# Altium footprint library con-hirose.PCBLIB: 38 footprints (part 2 of 3)
Each footprint in its own frame and in the unit in brackets; x right, y up, seen from the top. Pads: shape width x height; smd on the part's side, far side on the other; paste and mask are expansions set on the pad; w line width, h text height; cw(c..) or ccw(c..) is an arc to the next point about the centre after c.
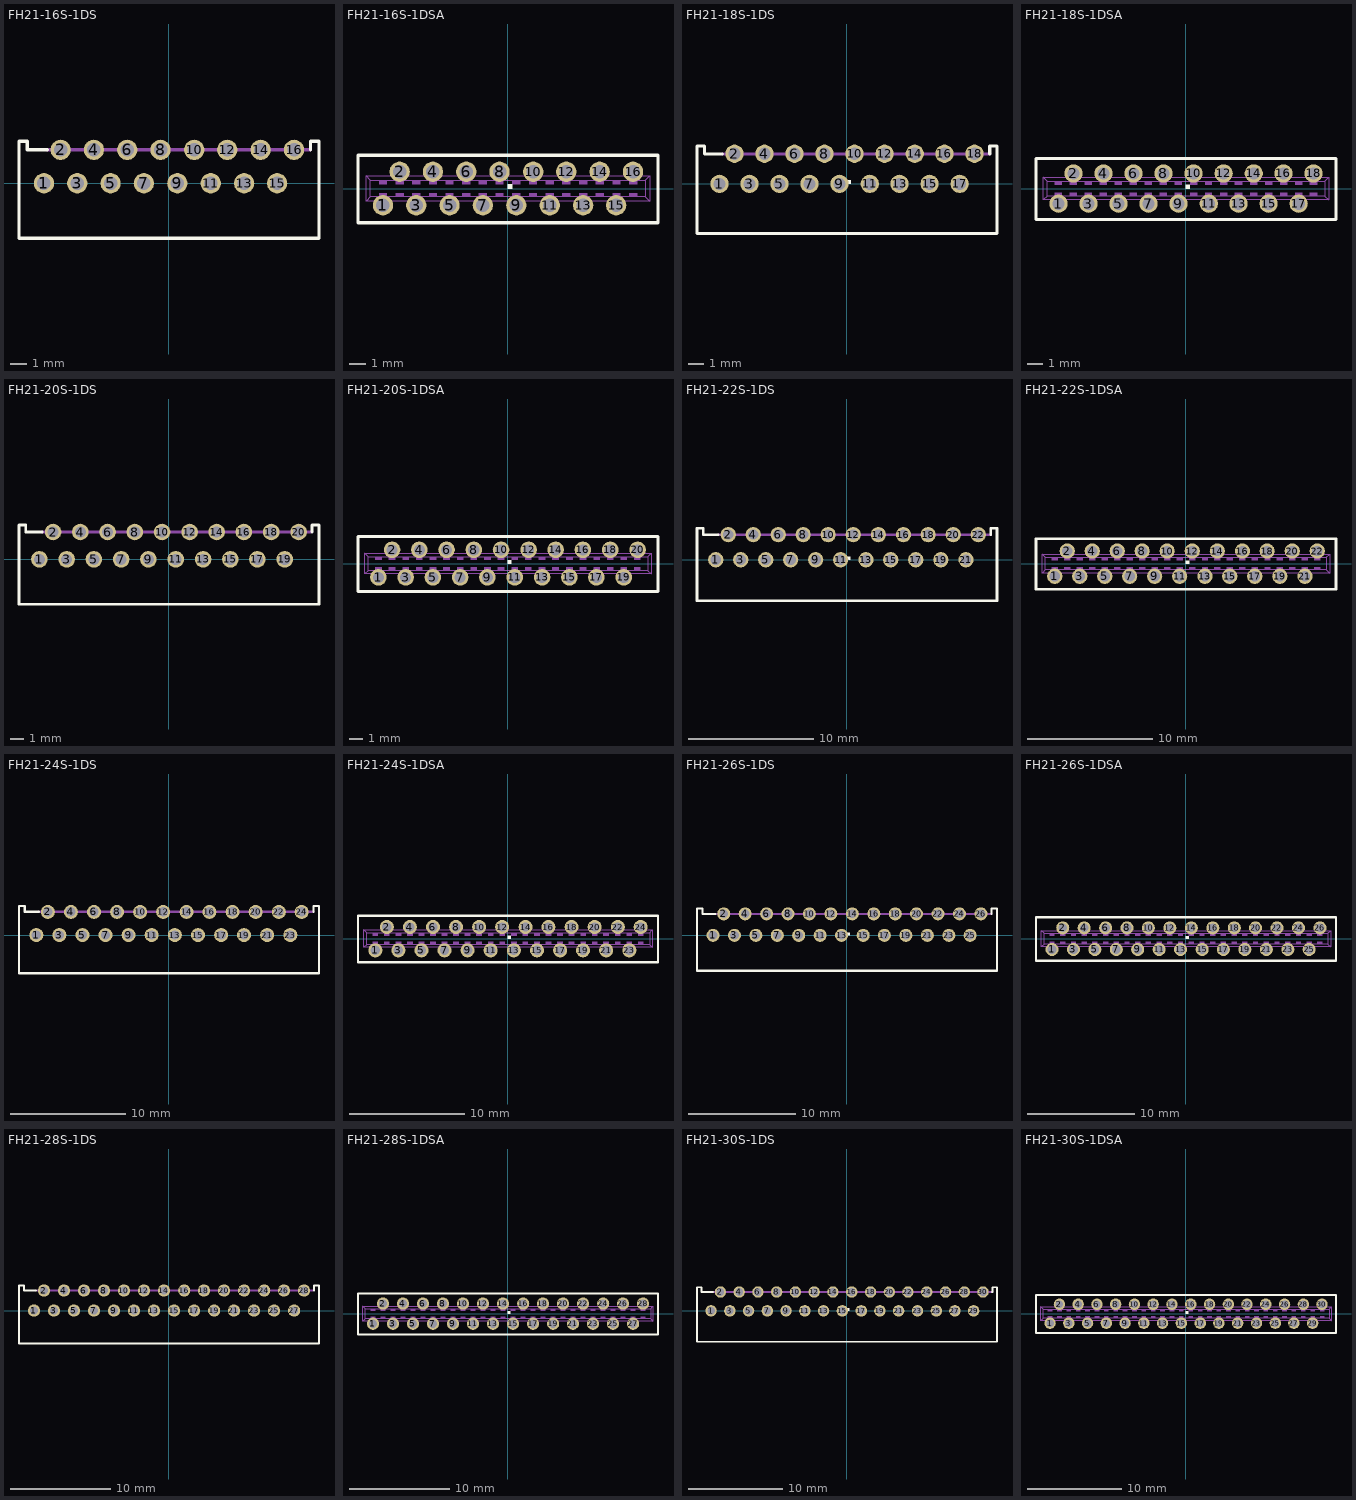
[diagram p1: the footprints below, top view; thin cyan lines are the x and y axes]

## FH21-16S-1DS [mil]
pads (16):
  round 48 hole 32: 1(-295.28,0) 2(-255.91,79) 3(-216.54,0) 4(-177.17,79) 5(-137.8,0) 6(-98.43,79) 7(-59.06,0) 8(-19.68,79) 9(20,0) 10(60,79) 11(99,0) 12(138,79) 13(178,0) 14(217,79) 15(256,0) 16(296,79)
Top Overlay:
  region: 0,0 10,0 10,10 0,10
  lines w8: -287.4,79 -334.65,79 -334.65,99 -354.33,99 -354.33,-129.92 355,-129.92 355,99 335,99 335,79
Mechanical 2:
  text ">NAME" at -333.54,122 h49.6
Mechanical 4:
  text ">VALUE" at -335.67,-197.87 h49.6
Mechanical 16:
  lines w8: -287.4,79 335,79

## FH21-16S-1DSA [mil]
pads (16):
  round 48 hole 32: 1(-295.28,-39.37) 2(-255.91,40) 3(-216.54,-39.37) 4(-177.17,40) 5(-137.8,-39.37) 6(-98.43,40) 7(-59.06,-39.37) 8(-19.68,40) 9(20,-39.37) 10(60,40) 11(99,-39.37) 12(138,40) 13(178,-39.37) 14(217,40) 15(256,-39.37) 16(296,40)
Top Overlay:
  region: 0,0 10,0 10,10 0,10
  lines w8: -354.33,-80.71 355,-80.71 355,79 -354.33,79 -354.33,-80.71
Mechanical 2:
  text ">NAME" at -341.54,100 h49.6
Mechanical 4:
  text ">VALUE" at -341.54,-137.5 h49.6
Mechanical 16:
  rectangle: -305.12,-19.68 -285.43,-9.84
  rectangle: -305.12,10 -285.43,20
  rectangle: -265.75,10 -246.06,20
  rectangle: -265.75,-19.68 -246.06,-9.84
  rectangle: -226.38,10 -206.69,20
  rectangle: -226.38,-19.68 -206.69,-9.84
  rectangle: -187.01,10 -167.32,20
  rectangle: -187.01,-19.68 -167.32,-9.84
  rectangle: -147.64,10 -127.95,20
  rectangle: -147.64,-19.68 -127.95,-9.84
  rectangle: -108.27,10 -88.58,20
  rectangle: -108.27,-19.68 -88.58,-9.84
  rectangle: -68.9,10 -49.21,20
  rectangle: -29.53,10 -9.84,20
  rectangle: 10,10 30,20
  rectangle: 50,10 69,20
  rectangle: -68.9,-19.68 -49.21,-9.84
  rectangle: -29.53,-19.68 -9.84,-9.84
  rectangle: 10,-19.68 30,-9.84
  rectangle: 50,-19.68 69,-9.84
  rectangle: 128,10 148,20
  rectangle: 89,10 109,20
  rectangle: 89,-19.68 109,-9.84
  rectangle: 128,-19.68 148,-9.84
  rectangle: 168,10 188,20
  rectangle: 207,10 227,20
  rectangle: 168,-19.68 188,-9.84
  rectangle: 207,-19.68 227,-9.84
  rectangle: 247,10 266,20
  rectangle: 286,10 306,20
  rectangle: 247,-19.68 266,-9.84
  rectangle: 286,-19.68 306,-9.84
  lines w2: -334.65,-29.53 335,-29.53 ; -334.65,-29.53 -334.65,30 ; -334.65,-29.53 -324.8,-19.68 ; -334.65,30 335,30 ; -334.65,30 -324.8,20 ; -324.8,-19.68 325,-19.68 ; -324.8,-19.68 -324.8,20 ; -324.8,20 325,20 ; 325,-19.68 325,20 ; 325,-19.68 335,-29.53 ; 325,20 335,30 ; 335,-29.53 335,30

## FH21-18S-1DS [mil]
pads (18):
  round 48 hole 32: 1(-334.65,0) 2(-295.28,79) 3(-255.91,0) 4(-216.54,79) 5(-177.17,0) 6(-137.8,79) 7(-98.43,0) 8(-59.06,79) 9(-19.68,0) 10(20,79) 11(60,0) 12(99,79) 13(138,0) 14(178,79) 15(217,0) 16(256,79) 17(296,0) 18(335,79)
Top Overlay:
  region: 0,0 10,0 10,10 0,10
  lines w8: -326.77,79 -374.02,79 -374.02,99 -393.7,99 -393.7,-129.92 394,-129.92 394,99 375,99 375,79
Mechanical 2:
  text ">NAME" at -372.91,122 h49.6
Mechanical 4:
  text ">VALUE" at -375.04,-197.87 h49.6
Mechanical 16:
  lines w8: -326.77,79 375,79

## FH21-18S-1DSA [mil]
pads (18):
  round 48 hole 32: 1(-334.65,-39.37) 2(-295.28,40) 3(-255.91,-39.37) 4(-216.54,40) 5(-177.17,-39.37) 6(-137.8,40) 7(-98.43,-39.37) 8(-59.06,40) 9(-19.68,-39.37) 10(20,40) 11(60,-39.37) 12(99,40) 13(138,-39.37) 14(178,40) 15(217,-39.37) 16(256,40) 17(296,-39.37) 18(335,40)
Top Overlay:
  region: 0,0 10,0 10,10 0,10
  lines w8: -393.7,-80.71 394,-80.71 394,79 -393.7,79 -393.7,-80.71
Mechanical 2:
  text ">NAME" at -380.91,100 h49.6
Mechanical 4:
  text ">VALUE" at -380.91,-137.5 h49.6
Mechanical 16:
  rectangle: -344.49,-19.68 -324.8,-9.84
  rectangle: -344.49,10 -324.8,20
  rectangle: -305.12,10 -285.43,20
  rectangle: -305.12,-19.68 -285.43,-9.84
  rectangle: -265.75,10 -246.06,20
  rectangle: -265.75,-19.68 -246.06,-9.84
  rectangle: -226.38,10 -206.69,20
  rectangle: -226.38,-19.68 -206.69,-9.84
  rectangle: -187.01,10 -167.32,20
  rectangle: -187.01,-19.68 -167.32,-9.84
  rectangle: -147.64,10 -127.95,20
  rectangle: -147.64,-19.68 -127.95,-9.84
  rectangle: -108.27,10 -88.58,20
  rectangle: -68.9,10 -49.21,20
  rectangle: -29.53,10 -9.84,20
  rectangle: 10,10 30,20
  rectangle: -108.27,-19.68 -88.58,-9.84
  rectangle: -68.9,-19.68 -49.21,-9.84
  rectangle: -29.53,-19.68 -9.84,-9.84
  rectangle: 10,-19.68 30,-9.84
  rectangle: 89,10 109,20
  rectangle: 50,10 69,20
  rectangle: 50,-19.68 69,-9.84
  rectangle: 89,-19.68 109,-9.84
  rectangle: 128,10 148,20
  rectangle: 168,10 188,20
  rectangle: 128,-19.68 148,-9.84
  rectangle: 168,-19.68 188,-9.84
  rectangle: 207,10 227,20
  rectangle: 247,10 266,20
  rectangle: 207,-19.68 227,-9.84
  rectangle: 247,-19.68 266,-9.84
  rectangle: 286,10 306,20
  rectangle: 325,10 345,20
  rectangle: 286,-19.68 306,-9.84
  rectangle: 325,-19.68 345,-9.84
  lines w2: -374.02,-29.53 375,-29.53 ; -374.02,-29.53 -374.02,30 ; -374.02,-29.53 -364.17,-19.68 ; -374.02,30 375,30 ; -374.02,30 -364.17,20 ; -364.17,-19.68 365,-19.68 ; -364.17,-19.68 -364.17,20 ; -364.17,20 365,20 ; 365,-19.68 365,20 ; 365,-19.68 375,-29.53 ; 365,20 375,30 ; 375,-29.53 375,30

## FH21-20S-1DS [mil]
pads (20):
  round 48 hole 32: 1(-374.02,0) 2(-334.65,79) 3(-295.28,0) 4(-255.91,79) 5(-216.54,0) 6(-177.17,79) 7(-137.8,0) 8(-98.43,79) 9(-59.06,0) 10(-19.68,79) 11(20,0) 12(60,79) 13(99,0) 14(138,79) 15(178,0) 16(217,79) 17(256,0) 18(296,79) 19(335,0) 20(375,79)
Top Overlay:
  region: 0,0 10,0 10,10 0,10
  lines w8: -366.14,79 -413.39,79 -413.39,99 -433.07,99 -433.07,-129.92 434,-129.92 434,99 414,99 414,79
Mechanical 2:
  text ">NAME" at -412.28,122 h49.6
Mechanical 4:
  text ">VALUE" at -414.41,-197.87 h49.6
Mechanical 16:
  lines w8: -366.14,79 414,79

## FH21-20S-1DSA [mil]
pads (20):
  round 48 hole 32: 1(-374.02,-39.37) 2(-334.65,40) 3(-295.28,-39.37) 4(-255.91,40) 5(-216.54,-39.37) 6(-177.17,40) 7(-137.8,-39.37) 8(-98.43,40) 9(-59.06,-39.37) 10(-19.68,40) 11(20,-39.37) 12(60,40) 13(99,-39.37) 14(138,40) 15(178,-39.37) 16(217,40) 17(256,-39.37) 18(296,40) 19(335,-39.37) 20(375,40)
Top Overlay:
  region: 0,0 10,0 10,10 0,10
  lines w8: -433.07,-80.71 434,-80.71 434,79 -433.07,79 -433.07,-80.71
Mechanical 2:
  text ">NAME" at -420.28,100 h49.6
Mechanical 4:
  text ">VALUE" at -420.28,-137.5 h49.6
Mechanical 16:
  rectangle: -383.86,-19.68 -364.17,-9.84
  rectangle: -383.86,10 -364.17,20
  rectangle: -344.49,10 -324.8,20
  rectangle: -344.49,-19.68 -324.8,-9.84
  rectangle: -305.12,10 -285.43,20
  rectangle: -305.12,-19.68 -285.43,-9.84
  rectangle: -265.75,10 -246.06,20
  rectangle: -265.75,-19.68 -246.06,-9.84
  rectangle: -226.38,10 -206.69,20
  rectangle: -226.38,-19.68 -206.69,-9.84
  rectangle: -187.01,10 -167.32,20
  rectangle: -187.01,-19.68 -167.32,-9.84
  rectangle: -147.64,10 -127.95,20
  rectangle: -108.27,10 -88.58,20
  rectangle: -68.9,10 -49.21,20
  rectangle: -29.53,10 -9.84,20
  rectangle: -147.64,-19.68 -127.95,-9.84
  rectangle: -108.27,-19.68 -88.58,-9.84
  rectangle: -68.9,-19.68 -49.21,-9.84
  rectangle: -29.53,-19.68 -9.84,-9.84
  rectangle: 50,10 69,20
  rectangle: 10,10 30,20
  rectangle: 10,-19.68 30,-9.84
  rectangle: 50,-19.68 69,-9.84
  rectangle: 89,10 109,20
  rectangle: 128,10 148,20
  rectangle: 89,-19.68 109,-9.84
  rectangle: 128,-19.68 148,-9.84
  rectangle: 168,10 188,20
  rectangle: 207,10 227,20
  rectangle: 168,-19.68 188,-9.84
  rectangle: 207,-19.68 227,-9.84
  rectangle: 247,10 266,20
  rectangle: 286,10 306,20
  rectangle: 247,-19.68 266,-9.84
  rectangle: 286,-19.68 306,-9.84
  rectangle: 325,10 345,20
  rectangle: 365,10 384,20
  rectangle: 325,-19.68 345,-9.84
  rectangle: 365,-19.68 384,-9.84
  lines w2: -413.39,-29.53 414,-29.53 ; -413.39,-29.53 -413.39,30 ; -413.39,-29.53 -403.54,-19.68 ; -413.39,30 414,30 ; -413.39,30 -403.54,20 ; -403.54,-19.68 404,-19.68 ; -403.54,-19.68 -403.54,20 ; -403.54,20 404,20 ; 404,-19.68 404,20 ; 404,-19.68 414,-29.53 ; 404,20 414,30 ; 414,-29.53 414,30

## FH21-22S-1DS [mil]
pads (22):
  round 48 hole 32: 1(-413.39,0) 2(-374.02,79) 3(-334.65,0) 4(-295.28,79) 5(-255.91,0) 6(-216.54,79) 7(-177.17,0) 8(-137.8,79) 9(-98.43,0) 10(-59.06,79) 11(-19.68,0) 12(20,79) 13(60,0) 14(99,79) 15(138,0) 16(178,79) 17(217,0) 18(256,79) 19(296,0) 20(335,79) 21(375,0) 22(414,79)
Top Overlay:
  region: 0,0 10,0 10,10 0,10
  lines w8: -405.51,79 -452.76,79 -452.76,99 -472.44,99 -472.44,-129.92 473,-129.92 473,99 453,99 453,79
Mechanical 2:
  text ">NAME" at -451.65,122 h49.6
Mechanical 4:
  text ">VALUE" at -453.78,-197.87 h49.6
Mechanical 16:
  lines w8: -405.51,79 453,79

## FH21-22S-1DSA [mil]
pads (22):
  round 48 hole 32: 1(-413.39,-39.37) 2(-374.02,40) 3(-334.65,-39.37) 4(-295.28,40) 5(-255.91,-39.37) 6(-216.54,40) 7(-177.17,-39.37) 8(-137.8,40) 9(-98.43,-39.37) 10(-59.06,40) 11(-19.68,-39.37) 12(20,40) 13(60,-39.37) 14(99,40) 15(138,-39.37) 16(178,40) 17(217,-39.37) 18(256,40) 19(296,-39.37) 20(335,40) 21(375,-39.37) 22(414,40)
Top Overlay:
  region: 0,0 10,0 10,10 0,10
  lines w8: -472.44,-80.71 473,-80.71 473,79 -472.44,79 -472.44,-80.71
Mechanical 2:
  text ">NAME" at -459.65,100 h49.6
Mechanical 4:
  text ">VALUE" at -459.65,-137.5 h49.6
Mechanical 16:
  rectangle: -423.23,-19.68 -403.54,-9.84
  rectangle: -423.23,10 -403.54,20
  rectangle: -383.86,10 -364.17,20
  rectangle: -383.86,-19.68 -364.17,-9.84
  rectangle: -344.49,10 -324.8,20
  rectangle: -344.49,-19.68 -324.8,-9.84
  rectangle: -305.12,10 -285.43,20
  rectangle: -305.12,-19.68 -285.43,-9.84
  rectangle: -265.75,10 -246.06,20
  rectangle: -265.75,-19.68 -246.06,-9.84
  rectangle: -226.38,10 -206.69,20
  rectangle: -226.38,-19.68 -206.69,-9.84
  rectangle: -187.01,10 -167.32,20
  rectangle: -147.64,10 -127.95,20
  rectangle: -108.27,10 -88.58,20
  rectangle: -68.9,10 -49.21,20
  rectangle: -187.01,-19.68 -167.32,-9.84
  rectangle: -147.64,-19.68 -127.95,-9.84
  rectangle: -108.27,-19.68 -88.58,-9.84
  rectangle: -68.9,-19.68 -49.21,-9.84
  rectangle: 10,10 30,20
  rectangle: -29.53,10 -9.84,20
  rectangle: -29.53,-19.68 -9.84,-9.84
  rectangle: 10,-19.68 30,-9.84
  rectangle: 50,10 69,20
  rectangle: 89,10 109,20
  rectangle: 50,-19.68 69,-9.84
  rectangle: 89,-19.68 109,-9.84
  rectangle: 128,10 148,20
  rectangle: 168,10 188,20
  rectangle: 128,-19.68 148,-9.84
  rectangle: 168,-19.68 188,-9.84
  rectangle: 207,10 227,20
  rectangle: 247,10 266,20
  rectangle: 207,-19.68 227,-9.84
  rectangle: 247,-19.68 266,-9.84
  rectangle: 286,10 306,20
  rectangle: 325,10 345,20
  rectangle: 286,-19.68 306,-9.84
  rectangle: 325,-19.68 345,-9.84
  rectangle: 365,10 384,20
  rectangle: 404,10 424,20
  rectangle: 365,-19.68 384,-9.84
  rectangle: 404,-19.68 424,-9.84
  lines w2: -452.76,-29.53 453,-29.53 ; -452.76,-29.53 -452.76,30 ; -452.76,-29.53 -442.91,-19.68 ; -452.76,30 453,30 ; -452.76,30 -442.91,20 ; -442.91,-19.68 443,-19.68 ; -442.91,-19.68 -442.91,20 ; -442.91,20 443,20 ; 443,-19.68 443,20 ; 443,-19.68 453,-29.53 ; 443,20 453,30 ; 453,-29.53 453,30

## FH21-24S-1DS [mil]
pads (24):
  round 48 hole 32: 1(-452.76,0) 2(-413.39,79) 3(-374.02,0) 4(-334.65,79) 5(-295.28,0) 6(-255.91,79) 7(-216.54,0) 8(-177.17,79) 9(-137.8,0) 10(-98.43,79) 11(-59.06,0) 12(-19.68,79) 13(20,0) 14(60,79) 15(99,0) 16(138,79) 17(178,0) 18(217,79) 19(256,0) 20(296,79) 21(335,0) 22(375,79) 23(414,0) 24(453,79)
Top Overlay:
  region: 0,0 10,0 10,10 0,10
  lines w8: -444.88,79 -492.13,79 -492.13,99 -511.81,99 -511.81,-129.92 512,-129.92 512,99 493,99 493,79
Mechanical 2:
  text ">NAME" at -491.02,122 h49.6
Mechanical 4:
  text ">VALUE" at -493.15,-197.87 h49.6
Mechanical 16:
  lines w8: -444.88,79 493,79

## FH21-24S-1DSA [mil]
pads (24):
  round 48 hole 32: 1(-452.76,-39.37) 2(-413.39,40) 3(-374.02,-39.37) 4(-334.65,40) 5(-295.28,-39.37) 6(-255.91,40) 7(-216.54,-39.37) 8(-177.17,40) 9(-137.8,-39.37) 10(-98.43,40) 11(-59.06,-39.37) 12(-19.68,40) 13(20,-39.37) 14(60,40) 15(99,-39.37) 16(138,40) 17(178,-39.37) 18(217,40) 19(256,-39.37) 20(296,40) 21(335,-39.37) 22(375,40) 23(414,-39.37) 24(453,40)
Top Overlay:
  region: 0,0 10,0 10,10 0,10
  lines w8: -511.81,-80.71 512,-80.71 512,79 -511.81,79 -511.81,-80.71
Mechanical 2:
  text ">NAME" at -499.02,100 h49.6
Mechanical 4:
  text ">VALUE" at -499.02,-137.5 h49.6
Mechanical 16:
  rectangle: -462.6,-19.68 -442.91,-9.84
  rectangle: -462.6,10 -442.91,20
  rectangle: -423.23,10 -403.54,20
  rectangle: -423.23,-19.68 -403.54,-9.84
  rectangle: -383.86,10 -364.17,20
  rectangle: -383.86,-19.68 -364.17,-9.84
  rectangle: -344.49,10 -324.8,20
  rectangle: -344.49,-19.68 -324.8,-9.84
  rectangle: -305.12,10 -285.43,20
  rectangle: -305.12,-19.68 -285.43,-9.84
  rectangle: -265.75,10 -246.06,20
  rectangle: -265.75,-19.68 -246.06,-9.84
  rectangle: -226.38,10 -206.69,20
  rectangle: -187.01,10 -167.32,20
  rectangle: -147.64,10 -127.95,20
  rectangle: -108.27,10 -88.58,20
  rectangle: -226.38,-19.68 -206.69,-9.84
  rectangle: -187.01,-19.68 -167.32,-9.84
  rectangle: -147.64,-19.68 -127.95,-9.84
  rectangle: -108.27,-19.68 -88.58,-9.84
  rectangle: -29.53,10 -9.84,20
  rectangle: -68.9,10 -49.21,20
  rectangle: -68.9,-19.68 -49.21,-9.84
  rectangle: -29.53,-19.68 -9.84,-9.84
  rectangle: 10,10 30,20
  rectangle: 50,10 69,20
  rectangle: 10,-19.68 30,-9.84
  rectangle: 50,-19.68 69,-9.84
  rectangle: 89,10 109,20
  rectangle: 128,10 148,20
  rectangle: 89,-19.68 109,-9.84
  rectangle: 128,-19.68 148,-9.84
  rectangle: 168,10 188,20
  rectangle: 207,10 227,20
  rectangle: 168,-19.68 188,-9.84
  rectangle: 207,-19.68 227,-9.84
  rectangle: 247,10 266,20
  rectangle: 286,10 306,20
  rectangle: 247,-19.68 266,-9.84
  rectangle: 286,-19.68 306,-9.84
  rectangle: 325,10 345,20
  rectangle: 365,10 384,20
  rectangle: 325,-19.68 345,-9.84
  rectangle: 365,-19.68 384,-9.84
  rectangle: 404,10 424,20
  rectangle: 443,10 463,20
  rectangle: 404,-19.68 424,-9.84
  rectangle: 443,-19.68 463,-9.84
  lines w2: -492.13,-29.53 493,-29.53 ; -492.13,-29.53 -492.13,30 ; -492.13,-29.53 -482.28,-19.68 ; -492.13,30 493,30 ; -492.13,30 -482.28,20 ; -482.28,-19.68 483,-19.68 ; -482.28,-19.68 -482.28,20 ; -482.28,20 483,20 ; 483,-19.68 483,20 ; 483,-19.68 493,-29.53 ; 483,20 493,30 ; 493,-29.53 493,30

## FH21-26S-1DS [mil]
pads (26):
  round 48 hole 32: 1(-492.13,0) 2(-452.76,79) 3(-413.39,0) 4(-374.02,79) 5(-334.65,0) 6(-295.28,79) 7(-255.91,0) 8(-216.54,79) 9(-177.17,0) 10(-137.8,79) 11(-98.43,0) 12(-59.06,79) 13(-19.68,0) 14(20,79) 15(60,0) 16(99,79) 17(138,0) 18(178,79) 19(217,0) 20(256,79) 21(296,0) 22(335,79) 23(375,0) 24(414,79) 25(453,0) 26(493,79)
Top Overlay:
  region: 0,0 10,0 10,10 0,10
  lines w8: -484.25,79 -531.5,79 -531.5,99 -551.18,99 -551.18,-129.92 552,-129.92 552,99 532,99 532,79
Mechanical 2:
  text ">NAME" at -530.39,122 h49.6
Mechanical 4:
  text ">VALUE" at -532.52,-197.87 h49.6
Mechanical 16:
  lines w8: -484.25,79 532,79

## FH21-26S-1DSA [mil]
pads (26):
  round 48 hole 32: 1(-492.13,-39.37) 2(-452.76,40) 3(-413.39,-39.37) 4(-374.02,40) 5(-334.65,-39.37) 6(-295.28,40) 7(-255.91,-39.37) 8(-216.54,40) 9(-177.17,-39.37) 10(-137.8,40) 11(-98.43,-39.37) 12(-59.06,40) 13(-19.68,-39.37) 14(20,40) 15(60,-39.37) 16(99,40) 17(138,-39.37) 18(178,40) 19(217,-39.37) 20(256,40) 21(296,-39.37) 22(335,40) 23(375,-39.37) 24(414,40) 25(453,-39.37) 26(493,40)
Top Overlay:
  region: 0,0 10,0 10,10 0,10
  lines w8: -551.18,-80.71 552,-80.71 552,79 -551.18,79 -551.18,-80.71
Mechanical 2:
  text ">NAME" at -538.39,100 h49.6
Mechanical 4:
  text ">VALUE" at -538.39,-137.5 h49.6
Mechanical 16:
  rectangle: -501.97,-19.68 -482.28,-9.84
  rectangle: -501.97,10 -482.28,20
  rectangle: -462.6,10 -442.91,20
  rectangle: -462.6,-19.68 -442.91,-9.84
  rectangle: -423.23,10 -403.54,20
  rectangle: -423.23,-19.68 -403.54,-9.84
  rectangle: -383.86,10 -364.17,20
  rectangle: -383.86,-19.68 -364.17,-9.84
  rectangle: -344.49,10 -324.8,20
  rectangle: -344.49,-19.68 -324.8,-9.84
  rectangle: -305.12,10 -285.43,20
  rectangle: -305.12,-19.68 -285.43,-9.84
  rectangle: -265.75,10 -246.06,20
  rectangle: -226.38,10 -206.69,20
  rectangle: -187.01,10 -167.32,20
  rectangle: -147.64,10 -127.95,20
  rectangle: -265.75,-19.68 -246.06,-9.84
  rectangle: -226.38,-19.68 -206.69,-9.84
  rectangle: -187.01,-19.68 -167.32,-9.84
  rectangle: -147.64,-19.68 -127.95,-9.84
  rectangle: -68.9,10 -49.21,20
  rectangle: -108.27,10 -88.58,20
  rectangle: -108.27,-19.68 -88.58,-9.84
  rectangle: -68.9,-19.68 -49.21,-9.84
  rectangle: -29.53,10 -9.84,20
  rectangle: 10,10 30,20
  rectangle: -29.53,-19.68 -9.84,-9.84
  rectangle: 10,-19.68 30,-9.84
  rectangle: 50,10 69,20
  rectangle: 89,10 109,20
  rectangle: 50,-19.68 69,-9.84
  rectangle: 89,-19.68 109,-9.84
  rectangle: 128,10 148,20
  rectangle: 168,10 188,20
  rectangle: 128,-19.68 148,-9.84
  rectangle: 168,-19.68 188,-9.84
  rectangle: 207,10 227,20
  rectangle: 247,10 266,20
  rectangle: 207,-19.68 227,-9.84
  rectangle: 247,-19.68 266,-9.84
  rectangle: 286,10 306,20
  rectangle: 325,10 345,20
  rectangle: 286,-19.68 306,-9.84
  rectangle: 325,-19.68 345,-9.84
  rectangle: 365,10 384,20
  rectangle: 404,10 424,20
  rectangle: 365,-19.68 384,-9.84
  rectangle: 404,-19.68 424,-9.84
  rectangle: 443,10 463,20
  rectangle: 483,10 502,20
  rectangle: 443,-19.68 463,-9.84
  rectangle: 483,-19.68 502,-9.84
  lines w2: -531.5,-29.53 532,-29.53 ; -531.5,-29.53 -531.5,30 ; -531.5,-29.53 -521.65,-19.68 ; -531.5,30 532,30 ; -531.5,30 -521.65,20 ; -521.65,-19.68 522,-19.68 ; -521.65,-19.68 -521.65,20 ; -521.65,20 522,20 ; 522,-19.68 522,20 ; 522,-19.68 532,-29.53 ; 522,20 532,30 ; 532,-29.53 532,30

## FH21-28S-1DS [mil]
pads (28):
  round 48 hole 32: 1(-531.5,0) 2(-492.13,79) 3(-452.76,0) 4(-413.39,79) 5(-374.02,0) 6(-334.65,79) 7(-295.28,0) 8(-255.91,79) 9(-216.54,0) 10(-177.17,79) 11(-137.8,0) 12(-98.43,79) 13(-59.06,0) 14(-19.68,79) 15(20,0) 16(60,79) 17(99,0) 18(138,79) 19(178,0) 20(217,79) 21(256,0) 22(296,79) 23(335,0) 24(375,79) 25(414,0) 26(453,79) 27(493,0) 28(532,79)
Top Overlay:
  region: 0,0 10,0 10,10 0,10
  lines w8: -523.62,79 -570.87,79 -570.87,99 -590.55,99 -590.55,-129.92 591,-129.92 591,99 571,99 571,79 572,79
Mechanical 2:
  text ">NAME" at -569.76,122 h49.6
Mechanical 4:
  text ">VALUE" at -571.89,-197.87 h49.6
Mechanical 16:
  lines w8: -523.62,79 571,79

## FH21-28S-1DSA [mil]
pads (28):
  round 48 hole 32: 1(-531.5,-39.37) 2(-492.13,40) 3(-452.76,-39.37) 4(-413.39,40) 5(-374.02,-39.37) 6(-334.65,40) 7(-295.28,-39.37) 8(-255.91,40) 9(-216.54,-39.37) 10(-177.17,40) 11(-137.8,-39.37) 12(-98.43,40) 13(-59.06,-39.37) 14(-19.68,40) 15(20,-39.37) 16(60,40) 17(99,-39.37) 18(138,40) 19(178,-39.37) 20(217,40) 21(256,-39.37) 22(296,40) 23(335,-39.37) 24(375,40) 25(414,-39.37) 26(453,40) 27(493,-39.37) 28(532,40)
Top Overlay:
  region: 0,0 10,0 10,10 0,10
  lines w8: -590.55,-80.71 591,-80.71 591,79 -590.55,79 -590.55,-80.71
Mechanical 2:
  text ">NAME" at -577.76,100 h49.6
Mechanical 4:
  text ">VALUE" at -577.76,-137.5 h49.6
Mechanical 16:
  rectangle: -541.34,-19.68 -521.65,-9.84
  rectangle: -541.34,10 -521.65,20
  rectangle: -501.97,10 -482.28,20
  rectangle: -501.97,-19.68 -482.28,-9.84
  rectangle: -462.6,10 -442.91,20
  rectangle: -462.6,-19.68 -442.91,-9.84
  rectangle: -423.23,10 -403.54,20
  rectangle: -423.23,-19.68 -403.54,-9.84
  rectangle: -383.86,10 -364.17,20
  rectangle: -383.86,-19.68 -364.17,-9.84
  rectangle: -344.49,10 -324.8,20
  rectangle: -344.49,-19.68 -324.8,-9.84
  rectangle: -305.12,10 -285.43,20
  rectangle: -265.75,10 -246.06,20
  rectangle: -226.38,10 -206.69,20
  rectangle: -187.01,10 -167.32,20
  rectangle: -305.12,-19.68 -285.43,-9.84
  rectangle: -265.75,-19.68 -246.06,-9.84
  rectangle: -226.38,-19.68 -206.69,-9.84
  rectangle: -187.01,-19.68 -167.32,-9.84
  rectangle: -108.27,10 -88.58,20
  rectangle: -147.64,10 -127.95,20
  rectangle: -147.64,-19.68 -127.95,-9.84
  rectangle: -108.27,-19.68 -88.58,-9.84
  rectangle: -68.9,10 -49.21,20
  rectangle: -29.53,10 -9.84,20
  rectangle: -68.9,-19.68 -49.21,-9.84
  rectangle: -29.53,-19.68 -9.84,-9.84
  rectangle: 10,10 30,20
  rectangle: 50,10 69,20
  rectangle: 10,-19.68 30,-9.84
  rectangle: 50,-19.68 69,-9.84
  rectangle: 89,10 109,20
  rectangle: 128,10 148,20
  rectangle: 89,-19.68 109,-9.84
  rectangle: 128,-19.68 148,-9.84
  rectangle: 168,10 188,20
  rectangle: 207,10 227,20
  rectangle: 168,-19.68 188,-9.84
  rectangle: 207,-19.68 227,-9.84
  rectangle: 247,10 266,20
  rectangle: 286,10 306,20
  rectangle: 247,-19.68 266,-9.84
  rectangle: 286,-19.68 306,-9.84
  rectangle: 325,10 345,20
  rectangle: 365,10 384,20
  rectangle: 325,-19.68 345,-9.84
  rectangle: 365,-19.68 384,-9.84
  rectangle: 404,10 424,20
  rectangle: 443,10 463,20
  rectangle: 404,-19.68 424,-9.84
  rectangle: 443,-19.68 463,-9.84
  rectangle: 483,10 502,20
  rectangle: 522,10 542,20
  rectangle: 483,-19.68 502,-9.84
  rectangle: 522,-19.68 542,-9.84
  lines w2: -570.87,-29.53 571,-29.53 ; -570.87,-29.53 -570.87,30 ; -570.87,-29.53 -561.02,-19.68 ; -570.87,30 571,30 ; -570.87,30 -561.02,20 ; -561.02,-19.68 562,-19.68 ; -561.02,-19.68 -561.02,20 ; -561.02,20 562,20 ; 562,-19.68 562,20 ; 562,-19.68 571,-29.53 ; 562,20 571,30 ; 571,-29.53 571,30

## FH21-30S-1DS [mil]
pads (30):
  round 48 hole 32: 1(-570.87,0) 2(-531.5,79) 3(-492.13,0) 4(-452.76,79) 5(-413.39,0) 6(-374.02,79) 7(-334.65,0) 8(-295.28,79) 9(-255.91,0) 10(-216.54,79) 11(-177.17,0) 12(-137.8,79) 13(-98.43,0) 14(-59.06,79) 15(-19.68,0) 16(20,79) 17(60,0) 18(99,79) 19(138,0) 20(178,79) 21(217,0) 22(256,79) 23(296,0) 24(335,79) 25(375,0) 26(414,79) 27(453,0) 28(493,79) 29(532,0) 30(571,79)
Top Overlay:
  region: 0,0 10,0 10,10 0,10
  lines w8: -562.99,79 -610.24,79 -610.24,99 -629.92,99 -629.92,-129.92 630,-129.92 630,99 611,99 611,79 608,79
Mechanical 2:
  text ">NAME" at -609.13,122 h49.6
Mechanical 4:
  text ">VALUE" at -611.26,-197.87 h49.6
Mechanical 16:
  lines w8: -562.99,79 611,79

## FH21-30S-1DSA [mil]
pads (30):
  round 48 hole 32: 1(-570.87,-39.37) 2(-531.5,40) 3(-492.13,-39.37) 4(-452.76,40) 5(-413.39,-39.37) 6(-374.02,40) 7(-334.65,-39.37) 8(-295.28,40) 9(-255.91,-39.37) 10(-216.54,40) 11(-177.17,-39.37) 12(-137.8,40) 13(-98.43,-39.37) 14(-59.06,40) 15(-19.68,-39.37) 16(20,40) 17(60,-39.37) 18(99,40) 19(138,-39.37) 20(178,40) 21(217,-39.37) 22(256,40) 23(296,-39.37) 24(335,40) 25(375,-39.37) 26(414,40) 27(453,-39.37) 28(493,40) 29(532,-39.37) 30(571,40)
Top Overlay:
  region: 0,0 10,0 10,10 0,10
  lines w8: -629.92,-80.71 630,-80.71 630,79 -629.92,79 -629.92,-80.71
Mechanical 2:
  text ">NAME" at -617.13,100 h49.6
Mechanical 4:
  text ">VALUE" at -617.13,-137.5 h49.6
Mechanical 16:
  rectangle: -580.71,-19.68 -561.02,-9.84
  rectangle: -580.71,10 -561.02,20
  rectangle: -541.34,10 -521.65,20
  rectangle: -541.34,-19.68 -521.65,-9.84
  rectangle: -501.97,10 -482.28,20
  rectangle: -501.97,-19.68 -482.28,-9.84
  rectangle: -462.6,10 -442.91,20
  rectangle: -462.6,-19.68 -442.91,-9.84
  rectangle: -423.23,10 -403.54,20
  rectangle: -423.23,-19.68 -403.54,-9.84
  rectangle: -383.86,10 -364.17,20
  rectangle: -383.86,-19.68 -364.17,-9.84
  rectangle: -344.49,10 -324.8,20
  rectangle: -305.12,10 -285.43,20
  rectangle: -265.75,10 -246.06,20
  rectangle: -226.38,10 -206.69,20
  rectangle: -344.49,-19.68 -324.8,-9.84
  rectangle: -305.12,-19.68 -285.43,-9.84
  rectangle: -265.75,-19.68 -246.06,-9.84
  rectangle: -226.38,-19.68 -206.69,-9.84
  rectangle: -147.64,10 -127.95,20
  rectangle: -187.01,10 -167.32,20
  rectangle: -187.01,-19.68 -167.32,-9.84
  rectangle: -147.64,-19.68 -127.95,-9.84
  rectangle: -108.27,10 -88.58,20
  rectangle: -68.9,10 -49.21,20
  rectangle: -108.27,-19.68 -88.58,-9.84
  rectangle: -68.9,-19.68 -49.21,-9.84
  rectangle: -29.53,10 -9.84,20
  rectangle: 10,10 30,20
  rectangle: -29.53,-19.68 -9.84,-9.84
  rectangle: 10,-19.68 30,-9.84
  rectangle: 50,10 69,20
  rectangle: 89,10 109,20
  rectangle: 50,-19.68 69,-9.84
  rectangle: 89,-19.68 109,-9.84
  rectangle: 128,10 148,20
  rectangle: 168,10 188,20
  rectangle: 128,-19.68 148,-9.84
  rectangle: 168,-19.68 188,-9.84
  rectangle: 207,10 227,20
  rectangle: 247,10 266,20
  rectangle: 207,-19.68 227,-9.84
  rectangle: 247,-19.68 266,-9.84
  rectangle: 286,10 306,20
  rectangle: 325,10 345,20
  rectangle: 286,-19.68 306,-9.84
  rectangle: 325,-19.68 345,-9.84
  rectangle: 365,10 384,20
  rectangle: 404,10 424,20
  rectangle: 365,-19.68 384,-9.84
  rectangle: 404,-19.68 424,-9.84
  rectangle: 443,10 463,20
  rectangle: 483,10 502,20
  rectangle: 443,-19.68 463,-9.84
  rectangle: 483,-19.68 502,-9.84
  rectangle: 522,10 542,20
  rectangle: 562,10 581,20
  rectangle: 522,-19.68 542,-9.84
  rectangle: 562,-19.68 581,-9.84
  lines w2: -610.24,-29.53 611,-29.53 ; -610.24,-29.53 -610.24,30 ; -610.24,-29.53 -600.39,-19.68 ; -610.24,30 611,30 ; -610.24,30 -600.39,20 ; -600.39,-19.68 601,-19.68 ; -600.39,-19.68 -600.39,20 ; -600.39,20 601,20 ; 601,-19.68 601,20 ; 601,-19.68 611,-29.53 ; 601,20 611,30 ; 611,-29.53 611,30